# Altium integrated library LM2576HVS-12_NOPB.IntLib: 1 symbol
Pins are listed as number, name and electrical type; pins without a type are passive.

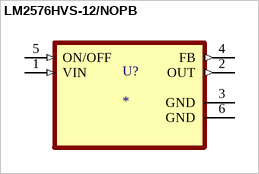
[diagram p0: symbol LM2576HVS-12/NOPB]

## LM2576HVS-12/NOPB
designator U?
SIMPLE SWITCHERÂ® 4V to 60V, 3A Low Component Count Step-Down Regulator 5-DDPAK/TO-263 -40 to 125; MF: Texas Instruments; MP: LM2576HVS-12; SnapEDA_Link: https://www.snapeda.com/parts/LM2576HVS-12/Texas+Instruments/view-part/?ref=snap; Package: TO-263-5 Texas Instruments; Value: *; Check_prices: https://www.snapeda.com/parts/LM2576HVS-12/Texas+Instruments/view-part/?ref=eda
footprint VREG_TPS79625KTTR
pins: 1 VIN (in), 2 OUT (out), 3 GND (power), 4 FB (out), 5 ON/OFF (in), 6 GND (power)